# Altium integrated library RN732BTTDK1001B10.IntLib: 1 symbol
Pins are listed as number, name and electrical type; pins without a type are passive.

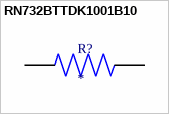
[diagram p0: symbol RN732BTTDK1001B10]

## RN732BTTDK1001B10
designator R?
Thin Film Resistors - SMD 1kOhm,1206,0.1%,10pp m,125mW,150V; MP: RN732BTTDK1001B10; Package: None; Price: None; Value: *; Availability: Unavailable
footprint RESC3216X70N
pins: 1, 2